# Altium footprint library GPS.PcbLib: 32 footprints (part 1 of 2)
Each footprint in its own frame and in the unit in brackets; x right, y up, seen from the top. Pads: shape width x height; smd on the part's side, far side on the other; paste and mask are expansions set on the pad; w line width, h text height; cw(c..) or ccw(c..) is an arc to the next point about the centre after c.
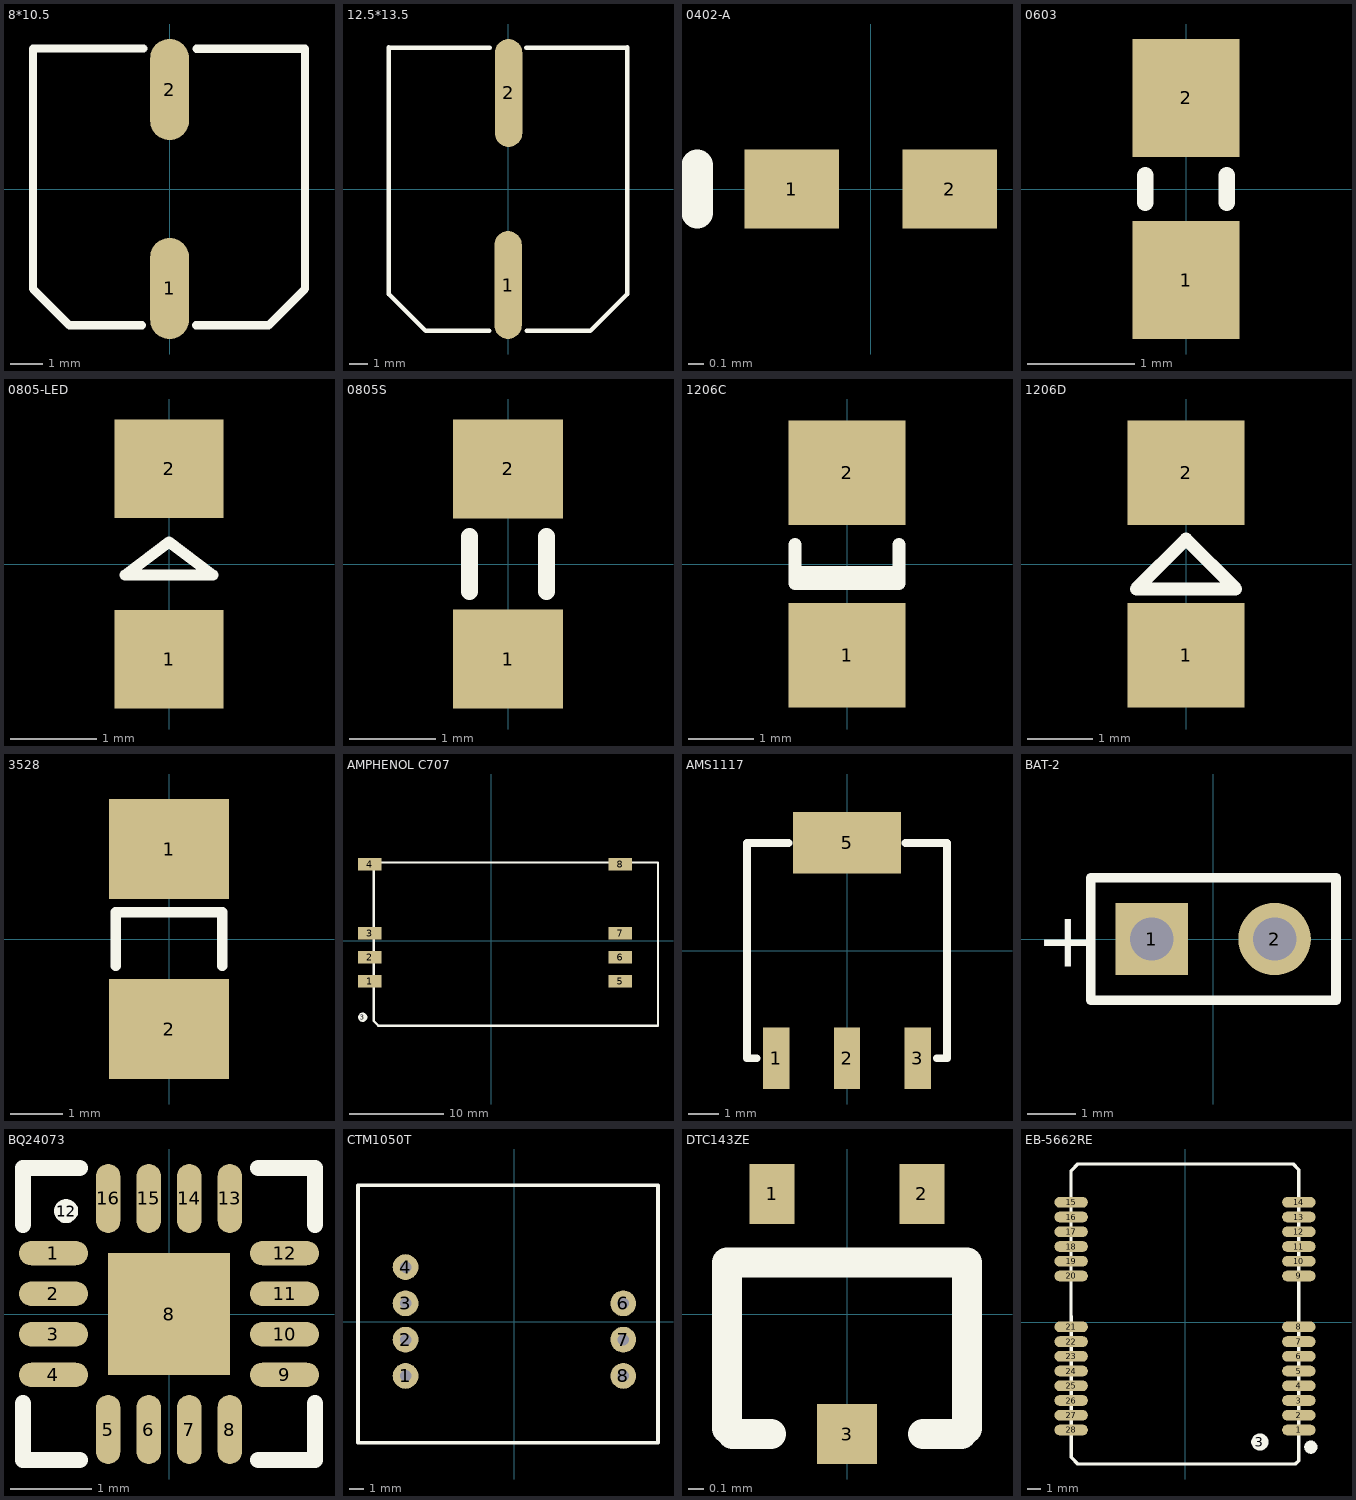
[diagram p0: the footprints below, top view; thin cyan lines are the x and y axes]

## 8*10.5 [mm]
pads (2):
  oval 1.2x3.1 smd: 1(0,-3.05) 2(0,3.05)
Top Overlay:
  lines w0.254: -4.19,-2.31 -4.19,-3.06 ; -0.85,-4.18 -3.07,-4.18 -4.19,-3.06 ; -0.8,4.31 -4.19,4.3 -4.19,-3.06 ; 0.81,-4.18 3.03,-4.18 4.15,-3.06 ; 0.82,4.3 4.15,4.3 4.15,-3.06 ; 4.15,-2.31 4.15,-3.06

## 12.5*13.5 [mm]
pads (2):
  oval 1.524x6 smd: 1(-0.015,-5.34) 2(0.015,5.34)
Top Overlay:
  lines w0.254: -6.405,7.86 -5.735,7.86 ; -6.145,7.85 -6.135,7.86 -1.035,7.86 ; -5.855,7.86 -6.645,7.86 -6.655,7.87 -6.655,-5.84 -4.605,-7.89 -1.055,-7.89 ; 0.995,7.86 6.095,7.86 6.105,7.85 ; 1.015,-7.89 4.565,-7.89 6.615,-5.84 6.615,7.87 6.605,7.86 5.815,7.86 ; 5.695,7.86 6.365,7.86

## 0402-A [mm]
height 0.55
pads (2):
  rect 0.6x0.5 smd: 1(-0.5,0) 2(0.5,0)
Top Overlay:
  lines w0.2: -1.1,-0.15 -1.1,0.15

## 0603 [mm]
pads (2):
  rect 1x1.1 smd: 1(0,-0.85) 2(0,0.85)
Top Overlay:
  lines w0.154: -0.381,-0.127 -0.381,0.127 ; 0.381,-0.127 0.381,0.127

## 0805-LED [mm]
pads (2):
  rect 1.27x1.143 smd: 1(0,-1.105) 2(0,1.105)
Top Overlay:
  lines w0.127: -0.508,-0.127 0.508,-0.127 0,0.254 -0.508,-0.127

## 0805S [mm]
pads (2):
  rect 1.27x1.143 smd: 1(0,-1.1) 2(0,1.1)
Top Overlay:
  lines w0.2: -0.445,-0.317 -0.445,0.318 ; 0.445,-0.317 0.445,0.318

## 1206C [mm]
pads (2):
  rect 1.8x1.6 smd: 1(0,-1.4) 2(0,1.4)
Top Overlay:
  lines w0.2: -0.8,-0.127 0.8,-0.127 ; -0.8,0.3 -0.8,-0.3 0.8,-0.3 0.8,0.3

## 1206D [mm]
pads (2):
  rect 1.8x1.6 smd: 1(0,-1.4) 2(0,1.4)
Top Overlay:
  lines w0.2: -0.762,-0.381 0.762,-0.381 0,0.381 -0.762,-0.381

## 3528 [mil]
pads (2):
  rect 90x75 smd: 1(0,67.5) 2(0,-67.5)
Top Overlay:
  lines w7.87: -40,-20 -40,20 40,20 40,-20

## AMPHENOL C707 [mm]
pads (9):
  rect 2.5x1.3 smd: 1(-12.869,-4.295) 2(-12.869,-1.755) 3(-12.869,0.785) 4(-12.869,8.105) 5(13.631,-4.295) 6(13.631,-1.755) 7(13.631,0.785) 8(13.631,8.105)
  round 1 on Top Overlay: 3(-13.631,-8.105)
Top Overlay:
  lines w0.254: -12.469,-8.505 -11.98,-8.994 17.631,-8.994 17.631,8.278 -11.98,8.278 -12.469,7.789 -12.469,7.77 -12.469,-8.505

## AMS1117 [mm]
pads (4):
  rect 0.85x2 smd: 1(-2.3,-3.5) 2(0,-3.5) 3(2.3,-3.5)
  rect 3.5x2 smd: 5(0,3.5)
Top Overlay:
  lines w0.254: -2.936,-3.5 -3.25,-3.5 -3.25,3.5 -1.905,3.5 ; 1.905,3.5 3.25,3.5 3.25,-3.5 2.921,-3.5

## BAT-2 [mm]
height 0.65
pads (2):
  rect 1.5x1.5 hole 0.9: 1(-1.27,0)
  round 1.5 hole 0.9: 2(1.27,0)
Top Overlay:
  lines w0.2: -2.54,-1.27 -2.54,1.27 2.54,1.27 2.54,-1.27 -2.54,-1.27
  text "+" at -3.67,-0.577 h1.15

## BQ24073 [mm]
pads (23):
  oval 0.85x0.3 smd: 1(-1.425,0.75) 2(-1.425,0.25) 3(-1.425,-0.25) 4(-1.425,-0.75) 9(1.425,-0.75) 10(1.425,-0.25) 11(1.425,0.25) 12(1.425,0.75)
  oval 0.3x0.85 smd: 5(-0.75,-1.425) 6(-0.25,-1.425) 7(0.25,-1.425) 8(0.75,-1.425) 13(0.75,1.425) 14(0.25,1.425) 15(-0.25,1.425) 16(-0.75,1.425)
  rect 1.5x1.5 smd: 8(0,0)
  round 0.3 on Top Overlay: 12(-1.27,1.27)
  round 0.25 all layers, no hole: ""(-0.508,-0.508) ""(-0.508,0.508) ""(0,0) ""(0.508,-0.508) ""(0.508,0.508)
Top Overlay:
  lines w0.2: -1.8,-1.1 -1.8,-1.8 -1.1,-1.8 ; -1.8,1.1 -1.8,1.8 -1.1,1.8 ; 1.1,-1.8 1.8,-1.8 1.8,-1.1 ; 1.1,1.8 1.8,1.8 1.8,1.1

## CTM1050T [mm]
height 0.65
pads (7):
  round 1.8 hole 0.8: 1(-7.62,-3.81) 2(-7.62,-1.27) 3(-7.62,1.27) 4(-7.62,3.81) 6(7.62,1.27) 7(7.62,-1.27) 8(7.62,-3.81)
Top Overlay:
  lines w0.254: -10.95,-8.475 10.05,-8.475 10.05,9.525 -10.95,9.525 -10.95,-8.475

## DTC143ZE [mm]
pads (3):
  rect 0.3x0.4 smd: 1(-0.5,0.8) 2(0.5,0.8)
  rect 0.4x0.4 smd: 3(0,-0.8)
Top Overlay:
  lines w0.2: -0.508,-0.8 -0.762,-0.8 -0.8,-0.762 -0.8,0.343 0.8,0.343 0.8,-0.762 0.762,-0.8 0.508,-0.8

## EB-5662RE [mm]
pads (30):
  oval 2.5x0.8 smd: 1(8.5,-8.051) 2(8.5,-6.951) 3(8.5,-5.851) 4(8.5,-4.751) 5(8.5,-3.651) 6(8.5,-2.551) 7(8.5,-1.451) 8(8.5,-0.351) 9(8.5,3.449) 10(8.5,4.549) 11(8.5,5.649) 12(8.5,6.749) 13(8.5,7.849) 14(8.5,8.949) 15(-8.5,8.949) 16(-8.5,7.849) 17(-8.5,6.749) 18(-8.5,5.649) 19(-8.5,4.549) 20(-8.5,3.449) 21(-8.5,-0.351) 22(-8.5,-1.451) 23(-8.5,-2.551) 24(-8.5,-3.651) 25(-8.5,-4.751) 26(-8.5,-5.851) 27(-8.5,-6.951) 28(-8.5,-8.051)
  round 1.3 on Top Overlay: 3(5.588,-8.949)
  round 1 on Top Overlay: ""(9.398,-9.33)
Top Overlay:
  lines w0.254: -8.509,10.922 -8.509,11.303 -8.003,11.809 -7.62,11.809 7.992,11.809 8.071,11.809 8.5,11.38 8.5,-10.337 8.246,-10.591 -8.01,-10.591 -8.5,-10.101 -8.5,-9.906 -8.509,10.922